# Altium schematic symbol library samd51.SchLib: 1 symbol
Pins are listed as number, name and electrical type; pins without a type are passive.

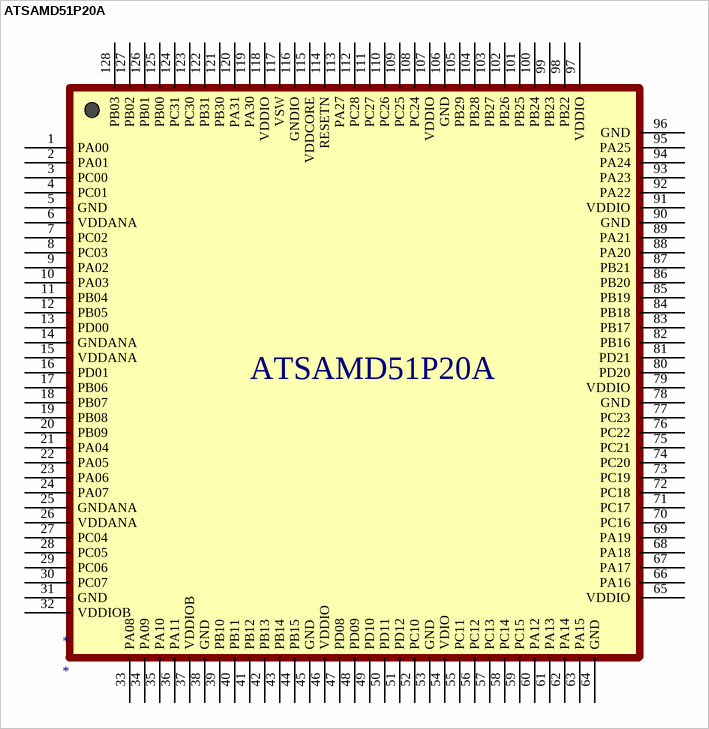
[diagram p0: symbol ATSAMD51P20A]

## ATSAMD51P20A
designator *
https://www.microchip.com/wwwproducts/en/ATSAMD51P20A#additional-features; ComponentLink1Description: ATSAMD51P20A; ComponentLink1URL: https://www.microchip.com/wwwproducts/en/ATSAMD51P20A#additional-features
footprint ATSAMD51P20A
pins: 1 PA00, 2 PA01, 3 PC00, 4 PC01, 5 GND, 6 VDDANA, 7 PC02, 8 PC03, 9 PA02, 10 PA03, 11 PB04, 12 PB05, 13 PD00, 14 GNDANA, 15 VDDANA, 16 PD01, 17 PB06, 18 PB07, 19 PB08, 20 PB09, 21 PA04, 22 PA05, 23 PA06, 24 PA07, 25 GNDANA, 26 VDDANA, 27 PC04, 28 PC05, 29 PC06, 30 PC07, 31 GND, 32 VDDIOB, 33 PA08, 34 PA09, 35 PA10, 36 PA11, 37 VDDIOB, 38 GND, 39 PB10, 40 PB11, 41 PB12, 42 PB13, 43 PB14, 44 PB15, 45 GND, 46 VDDIO, 47 PD08, 48 PD09, 49 PD10, 50 PD11, 51 PD12, 52 PC10, 53 GND, 54 VDIO, 55 PC11, 56 PC12, 57 PC13, 58 PC14, 59 PC15, 60 PA12, 61 PA13, 62 PA14, 63 PA15, 64 GND, 65 VDDIO, 66 PA16, 67 PA17, 68 PA18, 69 PA19, 70 PC16, 71 PC17, 72 PC18, 73 PC19, 74 PC20, 75 PC21, 76 PC22, 77 PC23, 78 GND, 79 VDDIO, 80 PD20, 81 PD21, 82 PB16, 83 PB17, 84 PB18, 85 PB19, 86 PB20, 87 PB21, 88 PA20, 89 PA21, 90 GND, 91 VDDIO, 92 PA22, 93 PA23, 94 PA24, 95 PA25, 96 GND, 97 VDDIO, 98 PB22, 99 PB23, 100 PB24, 101 PB25, 102 PB26, 103 PB27, 104 PB28, 105 PB29, 106 GND, 107 VDDIO, 108 PC24, 109 PC25, 110 PC26, 111 PC27, 112 PC28, 113 PA27, 114 RESETN, 115 VDDCORE, 116 GNDIO, 117 VSW, 118 VDDIO, 119 PA30, 120 PA31, 121 PB30, 122 PB31, 123 PC30, 124 PC31, 125 PB00, 126 PB01, 127 PB02, 128 PB03